# Altium schematic symbol library 1-776163-5.SchLib: 1 symbol
Pins are listed as number, name and electrical type; pins without a type are passive.

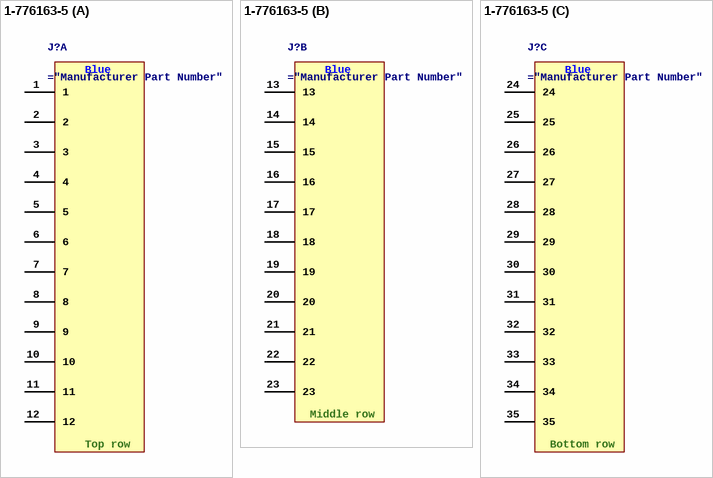
[diagram p0: symbol 1-776163-5]

## 1-776163-5
designator J?
Conn Power PL 35 POS 4mm Solder RA Thru-Hole 35 Terminal 1 Port, BLUE
part A pins: 1, 2, 3, 4, 5, 6, 7, 8, 9, 10, 11, 12
part B pins: 13, 14, 15, 16, 17, 18, 19, 20, 21, 22, 23
part C pins: 24, 25, 26, 27, 28, 29, 30, 31, 32, 33, 34, 35
part A text: Blue; Top row
part B text: Blue; Middle row
part C text: Blue; Bottom row